# EAGLE library part USB-TYPE-C-020_LCSC (library lcsc_parts)
Description: USB-C (USB TYPE-C) Receptacle Connector 16 Position Surface Mount, Right Angle Manufacturer: DEALON MPN: USB-TYPE-C-020 LCSC Part: C2927040 Category: USB, DVI, HDMI Connector Assemblies Datasheet: https://datasheet.lcsc.com/datasheet/pdf/dcb5964742158ab38cb405190d96a61a.pdf?productCode=C2927040
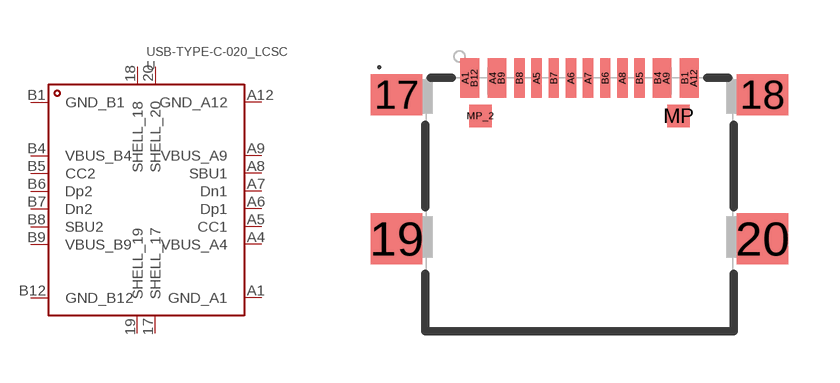
[diagram p15: symbol with the pads of USB-SMD_USB-TYPE-C-020; footprint USB-SMD_USB-TYPE-C-020]

Designator prefix U

## USB-TYPE-C-020_LCSC (CATEGORY: USB, DVI, HDMI Connector Assemblies; CONNECTOR_TYPE: Type-C; CURRENT_RATING_POWER: 3A; DATASHEET: https://datasheet.lcsc.com/datasheet/pdf/dcb5964742158ab38cb405190d96a61a.pdf?productCode=C2927040; DESCRIPTION: USB-C (USB TYPE-C) Receptacle Connector 16 Position Surface Mount, Right Angle; GENDER: Female; LCSC_PART: C2927040; LCSC_STOCK: 11730; MANUFACTURER: DEALON; MOUNTING_TYPE: Surface Mount, Right Angle; MPN: USB-TYPE-C-020; NUMBER_OF_CONTACTS: 16P; NUMBER_OF_PORTS: 1; OPERATING_TEMPERATURE: -25℃~+85℃; PARTNO: USB-TYPE-C-020; PRICING_1000: $0.0418/unit @ 1000; PRICING_50: $0.0746/unit @ 50; VOLTAGE_RATING: 5V)  [USB-SMD_USB-TYPE-C-020]
17  SHELL_17
18  SHELL_18
19  SHELL_19
20  SHELL_20
A1  GND_A1
A4  VBUS_A4
A5  CC1
A6  Dp1
A7  Dn1
A8  SBU1
A9  VBUS_A9
A12  GND_A12
B1  GND_B1
B4  VBUS_B4
B5  CC2
B6  Dp2
B7  Dn2
B8  SBU2
B9  VBUS_B9
B12  GND_B12

## Footprint USB-SMD_USB-TYPE-C-020 (pad centres in mm)
smd 1.5 x 1.2: 17 -5.33,1.86; 18 5.33,1.86
smd 1.5 x 1.5: 19 -5.33,-2.34; 20 5.33,-2.34
smd 0.3 x 1.15: A1 -3.33,2.34; A4 -2.53,2.34; A5 -1.25,2.34; A6 -0.25,2.34; A7 0.25,2.34; A8 1.25,2.34; A9 2.53,2.34; A12 3.33,2.34; B1 3.07,2.34; B4 2.28,2.34; B5 1.75,2.34; B6 0.75,2.34; B7 -0.75,2.34; B8 -1.75,2.34; B9 -2.28,2.34; B12 -3.07,2.34
smd 0.65 x 0.65: MP 2.89,1.24; MP_2 -2.89,1.24